# Altium footprint library 接口.PCBLIB: 266 footprints (part 12 of 17)
Each footprint in its own frame and in the unit in brackets; x right, y up, seen from the top. Pads: shape width x height; smd on the part's side, far side on the other; paste and mask are expansions set on the pad; w line width, h text height; cw(c..) or ccw(c..) is an arc to the next point about the centre after c.
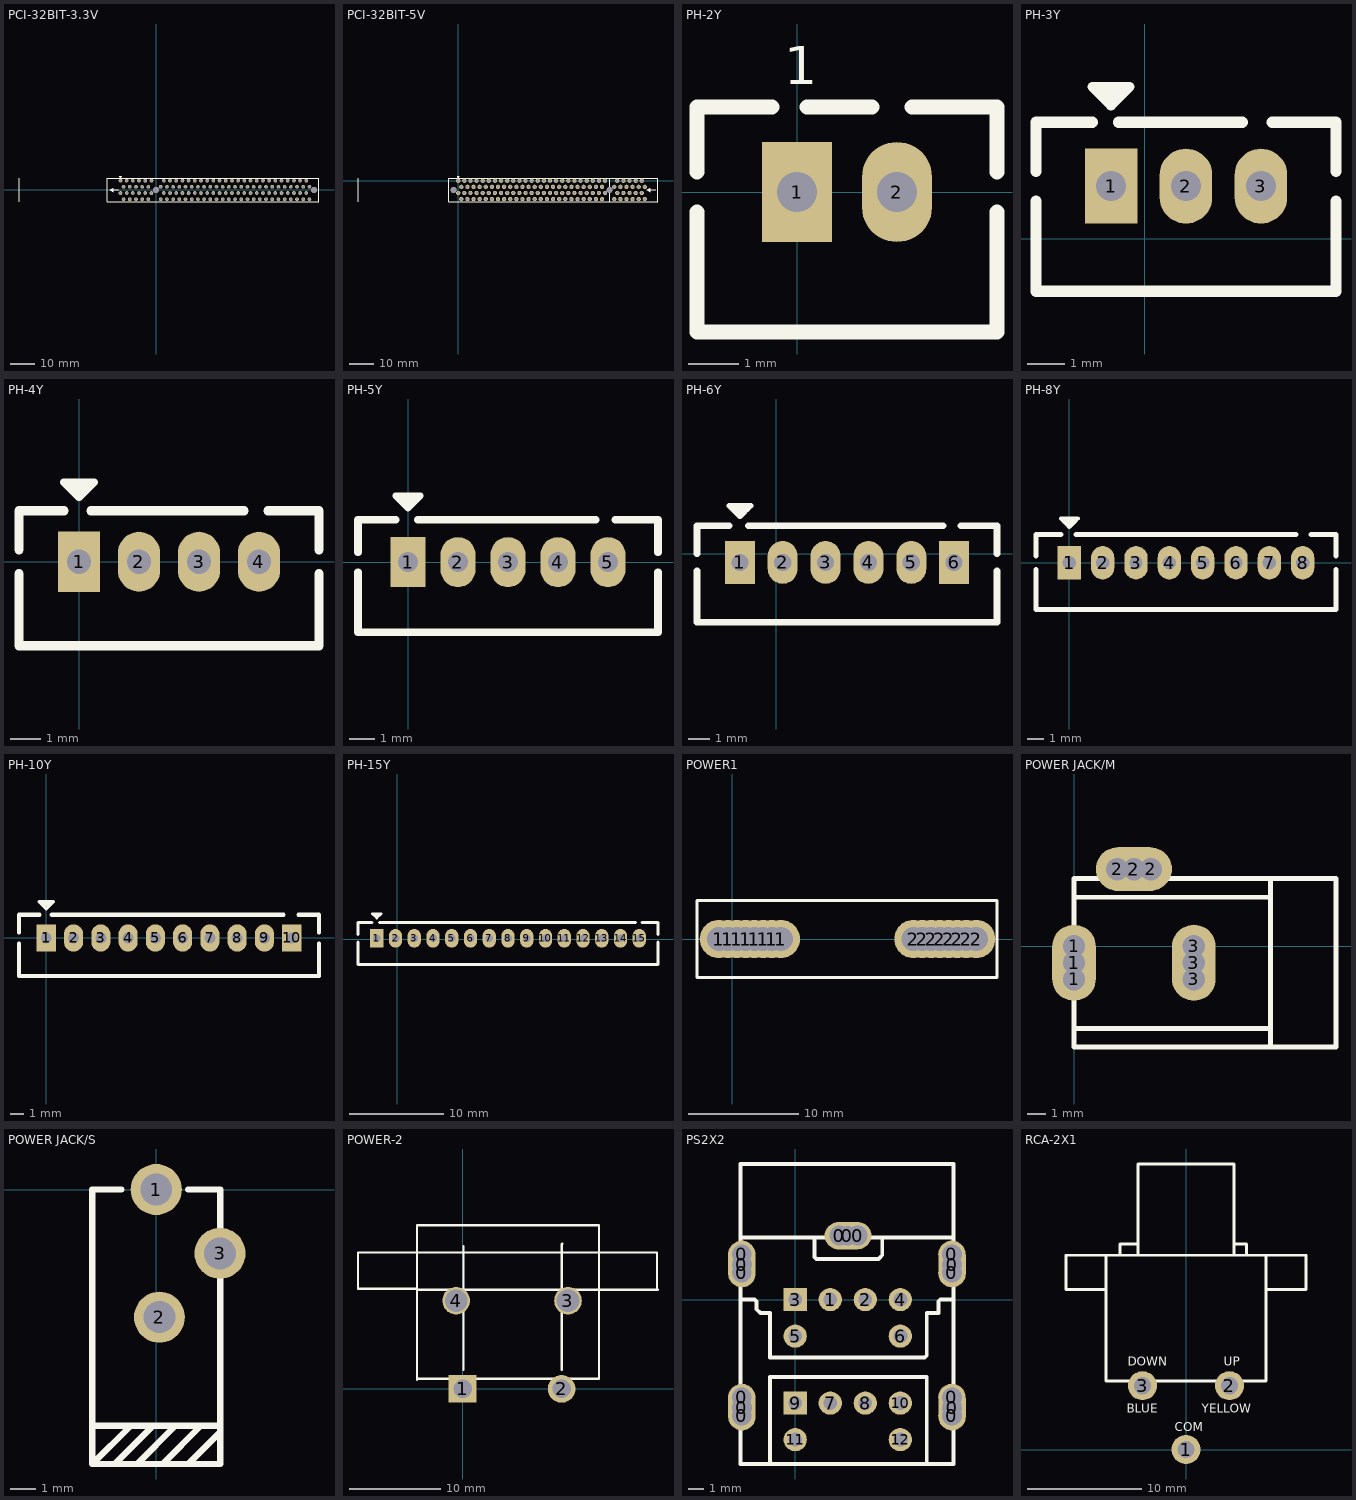
[diagram p11: the footprints below, top view; thin cyan lines are the x and y axes]

## PCI-32BIT-3.3V [mil]
pads (122):
  round 60 hole 40: A1(-575,150) A2(-525,50) A3(-475,150) A4(-425,50) A5(-375,150) A6(-325,50) A7(-275,150) A8(-225,50) A9(-175,150) A10(-125,50) A11(-75,150) A14(75,50) A15(125,150) A16(175,50) A17(225,150) A18(275,50) A19(325,150) A20(375,50) A21(425,150) A22(475,50) A23(525,150) A24(575,50) A25(625,150) A26(675,50) A27(725,150) A28(775,50) A29(825,150) A30(875,50) A31(925,150) A32(975,50) A33(1025,150) A34(1075,50) A35(1125,150) A36(1175,50) A37(1225,150) A38(1275,50) A39(1325,150) A40(1375,50) A41(1425,150) A42(1475,50) A43(1525,150) A44(1575,50) A45(1625,150) A46(1675,50) A47(1725,150) A48(1775,50) A49(1825,150) A50(1875,50) A51(1925,150) A52(1975,50) A53(2025,150) A54(2075,50) A55(2125,150) A56(2175,50) A57(2225,150) A58(2275,50) A59(2325,150) A60(2375,50) A61(2425,150) A62(2475,50) B1(-575,-50) B2(-525,-150) B3(-475,-50) B4(-425,-150) B5(-375,-50) B6(-325,-150) B7(-275,-50) B8(-225,-150) B9(-175,-50) B10(-125,-150) B11(-75,-50) B14(75,-150) B15(125,-50) B16(175,-150) B17(225,-50) B18(275,-150) B19(325,-50) B20(375,-150) B21(425,-50) B22(475,-150) B23(525,-50) B24(575,-150) B25(625,-50) B26(675,-150) B27(725,-50) B28(775,-150) B29(825,-50) B30(875,-150) B31(925,-50) B32(975,-150) B33(1025,-50) B34(1075,-150) B35(1125,-50) B36(1175,-150) B37(1225,-50) B38(1275,-150) B39(1325,-50) B40(1375,-150) B41(1425,-50) B42(1475,-150) B43(1525,-50) B44(1575,-150) B45(1625,-50) B46(1675,-150) B47(1725,-50) B48(1775,-150) B49(1825,-50) B50(1875,-150) B51(1925,-50) B52(1975,-150) B53(2025,-50) B54(2075,-150) B55(2125,-50) B56(2175,-150) B57(2225,-50) B58(2275,-150) B59(2325,-50) B60(2375,-150) B61(2425,-50) B62(2475,-150)
  round 96 hole 96: H1(0,0) H2(2550,0)
TopOverlay:
  lines w10: -2213,-190 -2213,190 ; -587.03,212.03 -562.97,212.03 -555.32,219.69 ; -555.32,219.69 -575,200 -594.68,219.69 -555.32,219.69 ; -790,-190 2630,-190 2630,190 -790,190 -790,-190
  lines w15: -710,-20 -710,20 ; -750,0 -695,30 -695,-30 -750,0
  lines w20: -740,0 -605,0

## PCI-32BIT-5V [mil]
pads (122):
  round 70 hole 40: A1(0,0) A2(50,-100) A3(100,0) A4(150,-100) A5(200,0) A6(250,-100) A7(300,0) A8(350,-100) A9(400,0) A10(450,-100) A11(500,0) A12(550,-100) A13(600,0) A14(650,-100) A15(700,0) A16(750,-100) A17(800,0) A18(850,-100) A19(900,0) A20(950,-100) A21(1000,0) A22(1050,-100) A23(1100,0) A24(1150,-100) A25(1200,0) A26(1250,-100) A27(1300,0) A28(1350,-100) A29(1400,0) A30(1450,-100) A31(1500,0) A32(1550,-100) A33(1600,0) A34(1650,-100) A35(1700,0) A36(1750,-100) A37(1800,0) A38(1850,-100) A39(1900,0) A40(1950,-100) A41(2000,0) A42(2050,-100) A43(2100,0) A44(2150,-100) A45(2200,0) A46(2250,-100) A47(2300,0) A48(2350,-100) A49(2400,0) A52(2550,-100) A53(2600,0) A54(2650,-100) A55(2700,0) A56(2750,-100) A57(2800,0) A58(2850,-100) A59(2900,0) A60(2950,-100) A61(3000,0) A62(3050,-100) B1(0,-200) B2(50,-300) B3(100,-200) B4(150,-300) B5(200,-200) B6(250,-300) B7(300,-200) B8(350,-300) B9(400,-200) B10(450,-300) B11(500,-200) B12(550,-300) B13(600,-200) B14(650,-300) B15(700,-200) B16(750,-300) B17(800,-200) B18(850,-300) B19(900,-200) B20(950,-300) B21(1000,-200) B22(1050,-300) B23(1100,-200) B24(1150,-300) B25(1200,-200) B26(1250,-300) B27(1300,-200) B28(1350,-300) B29(1400,-200) B30(1450,-300) B31(1500,-200) B32(1550,-300) B33(1600,-200) B34(1650,-300) B35(1700,-200) B36(1750,-300) B37(1800,-200) B38(1850,-300) B39(1900,-200) B40(1950,-300) B41(2000,-200) B42(2050,-300) B43(2100,-200) B44(2150,-300) B45(2200,-200) B46(2250,-300) B47(2300,-200) B48(2350,-300) B49(2400,-200) B52(2550,-300) B53(2600,-200) B54(2650,-300) B55(2700,-200) B56(2750,-300) B57(2800,-200) B58(2850,-300) B59(2900,-200) B60(2950,-300) B61(3000,-200) B62(3050,-300)
  round 96 hole 96: H1(-75,-150) H2(2475,-150)
TopOverlay:
  lines w7.87: 2475,-340 2475,40
  lines w10: -1638,-340 -1638,40 ; -12.04,62.03 12.03,62.03 19.68,69.69 ; 19.68,69.69 0,50 -19.68,69.69 19.68,69.69 ; -155,-340 -155,40 3265,40 3265,-340 -155,-340
  lines w15: 3125,-170 3125,-130 ; 3085,-150 3140,-120 3140,-180 3085,-150
  lines w20: 3095,-150 3230,-150

## PH-2Y [mm]
pads (2):
  rect 1.4x2 hole 0.8: 1(0,0)
  oval 1.4x2 hole 0.8: 2(2,0)
TopOverlay:
  lines w0.305: -2,-0.4 -2,-2.8 4,-2.8 4,-0.4 ; -2,0.4 -2,1.7 -0.5,1.7 ; 0.2,1.7 1.5,1.7 ; 2.3,1.7 4,1.7 4,0.4
  text "1" at -0.254,2.159 h0.76

## PH-3Y [mm]
pads (3):
  rect 1.4x2 hole 0.8: 1(-0.9,1.4)
  oval 1.4x2 hole 0.8: 2(1.1,1.4) 3(3.1,1.4)
TopOverlay:
  lines w0.254: -1.206,3.856 -0.594,3.856 -0.4,4.05 ; -0.4,4.05 -0.9,3.55 -1.4,4.05 -0.4,4.05
  lines w0.305: -2.9,1 -2.9,-1.4 5.1,-1.4 5.1,1 ; -2.9,1.8 -2.9,3.1 -1.4,3.1 ; -0.7,3.1 2.6,3.1 ; 3.4,3.1 5.1,3.1 5.1,1.8

## PH-4Y [mm]
pads (4):
  rect 1.4x2 hole 0.8: 1(0,0)
  oval 1.4x2 hole 0.8: 2(2,0) 3(4,0) 4(6,0)
TopOverlay:
  lines w0.254: -0.306,2.456 0.306,2.456 0.5,2.65 ; 0.5,2.65 0,2.15 -0.5,2.65 0.5,2.65
  lines w0.305: -2,-0.4 -2,-2.8 8,-2.8 8,-0.4 ; -2,0.4 -2,1.7 -0.5,1.7 ; 0.4,1.7 5.5,1.7 ; 6.3,1.7 8,1.7 8,0.4

## PH-5Y [mm]
pads (5):
  rect 1.4x2 hole 0.8: 1(0,0)
  oval 1.4x2 hole 0.8: 2(2,0) 3(4,0) 4(6,0) 5(8,0)
TopOverlay:
  lines w0.254: -0.306,2.456 0.306,2.456 0.5,2.65 ; 0.5,2.65 0,2.15 -0.5,2.65 0.5,2.65
  lines w0.305: -2,-0.4 -2,-2.8 10,-2.8 10,-0.4 ; -2,0.4 -2,1.7 -0.5,1.7 ; 0.4,1.7 7.5,1.7 ; 8.3,1.7 10,1.7 10,0.4

## PH-6Y [mm]
pads (6):
  rect 1.4x2 hole 0.8: 1(-1.7,-0.4) 6(8.3,-0.4)
  oval 1.4x2 hole 0.8: 2(0.3,-0.4) 3(2.3,-0.4) 4(4.3,-0.4) 5(6.3,-0.4)
TopOverlay:
  lines w0.254: -2.006,2.056 -1.394,2.056 -1.2,2.25 ; -1.2,2.25 -2.2,2.25 -1.7,1.75 -1.2,2.25
  lines w0.305: -3.7,-0.8 -3.7,-3.2 10.3,-3.2 10.3,-0.8 ; -3.7,0 -3.7,1.3 -2.2,1.3 ; -1.3,1.3 7.8,1.3 ; 8.6,1.3 10.3,1.3 10.3,0

## PH-8Y [mm]
pads (8):
  rect 1.4x2 hole 0.8: 1(0,0)
  oval 1.4x2 hole 0.8: 2(2,0) 3(4,0) 4(6,0) 5(8,0) 6(10,0) 7(12,0) 8(14,0)
TopOverlay:
  lines w0.254: -0.306,2.456 0.306,2.456 0.5,2.65 ; 0.5,2.65 -0.5,2.65 0,2.15 0.5,2.65
  lines w0.305: -2,-0.4 -2,-2.8 16,-2.8 16,-0.4 ; -2,0.4 -2,1.7 -0.5,1.7 ; 0.4,1.7 13.6,1.7 ; 14.5,1.7 16,1.7 16,0.4

## PH-10Y [mm]
pads (10):
  rect 1.4x2 hole 0.8: 1(0,0) 10(18,0)
  oval 1.4x2 hole 0.8: 2(2,0) 3(4,0) 4(6,0) 5(8,0) 6(10,0) 7(12,0) 8(14,0) 9(16,0)
TopOverlay:
  lines w0.254: -0.306,2.456 0.306,2.456 0.5,2.65 ; 0.5,2.65 -0.5,2.65 0,2.15 0.5,2.65
  lines w0.305: -2,-0.4 -2,-2.8 20,-2.8 20,-0.4 ; -2,0.4 -2,1.7 -0.5,1.7 ; 0.4,1.7 17.4,1.7 ; 18.5,1.7 20,1.7 20,0.4

## PH-15Y [mm]
pads (15):
  rect 1.4x2 hole 0.8: 1(-2.2,0.1)
  oval 1.4x2 hole 0.8: 2(-0.2,0.1) 3(1.8,0.1) 4(3.8,0.1) 5(5.8,0.1) 6(7.8,0.1) 7(9.8,0.1) 8(11.8,0.1) 9(13.8,0.1) 10(15.8,0.1) 11(17.8,0.1) 12(19.8,0.1) 13(21.8,0.1) 14(23.8,0.1) 15(25.8,0.1)
TopOverlay:
  lines w0.254: -2.506,2.556 -1.894,2.556 -1.7,2.75 ; -1.7,2.75 -2.7,2.75 -2.2,2.25 -1.7,2.75
  lines w0.305: -4.2,-0.3 -4.2,-2.7 17.8,-2.7 ; -4.2,0.5 -4.2,1.8 -2.7,1.8 ; -1.9,1.8 25.4,1.8 ; 13.8,-2.7 27.8,-2.7 27.8,-0.3 ; 26.1,1.8 27.8,1.8 27.8,0.5

## POWER1 [mm]
pads (16):
  round 3.5 hole 2.2: 1(-1.2,0) 1(-0.381,0) 1(0.419,0) 1(1.219,0) 1(2.019,0) 1(2.819,0) 1(3.619,0) 1(4.419,0) 2(16.5,0) 2(17.3,0) 2(18.1,0) 2(18.9,0) 2(19.7,0) 2(20.5,0) 2(21.3,0) 2(22.2,0)
TopOverlay:
  lines w0.254: -3.2,-3.5 -3.2,3.5 24.1,3.5 24.1,-3.5 -3.2,-3.5

## POWER JACK/M [mil]
pads (9):
  round 47 hole 47: 1(0,-70) 1(0,0) 2(91,162) 2(161,162) 3(252,-70) 3(252,0)
  oval 92x160 hole 47: 1(0,-35) 3(252,-35)
  oval 160x92 hole 47: 2(126,162)
TopOverlay:
  lines w10: 0,-173 413,-173 ; 0,103 413,103 ; 413,-212 413,142 ; 0,-212 551,-212 551,142 0,142 0,-212

## POWER JACK/S [mil]
pads (3):
  round 80 hole 50: 1(0,0) 2(5,-200) 3(100,-100)
TopOverlay:
  lines w10: -100,-370 100,-370 ; -65,-430 -5,-370 ; -55,0 -100,0 -100,-430 ; -40,-370 -100,-430 ; -30,-430 30,-370 ; 10,-430 70,-370 ; 50,-430 100,-380 ; 50,0 100,0 100,-430 -100,-430

## POWER-2 [mil]
pads (4):
  rect 120x120 hole 80: 1(0,0)
  round 120 hole 80: 2(429.13,0)
  round 120 hole 98.42: 3(456.69,381.89) 4(-27.56,381.89)
TopOverlay:
  lines w10: -196.85,590.55 842.52,590.55 842.52,433.07 846.46,429.13 -196.85,429.13 -200.79,433.07 -452.76,433.07 -452.76,590.55 -192.91,590.55 ; -23.62,39.37 -19.68,43.31 590.55,43.31 590.55,708.66 -196.85,708.66 -196.85,39.37 -192.91,43.31 0,43.31 ; 3.94,82.68 3.94,618.11 ; 429.13,82.68 429.13,625.98 433.07,629.92

## PS2X2 [mm]
pads (27):
  round 1.8 hole 1.3: 0(-3.509,1.771) 0(-3.509,2.971) 0(-3.509,-7.629) 0(-3.509,-6.429) 0(2.9,4.2) 0(4.1,4.2) 0(10.291,-7.629) 0(10.291,-6.429) 0(10.291,1.771) 0(10.291,2.971)
  oval 1.8x3 hole 1.3: 0(-3.5,2.3) 0(-3.5,-7.1) 0(10.3,-7.1) 0(10.3,2.3)
  oval 3x1.8 hole 1.3: 0(3.429,4.191)
  round 1.524 hole 0.914: 1(2.3,0) 2(4.6,0) 4(6.9,0) 5(0,-2.4) 6(6.9,-2.4) 7(2.3,-6.8) 8(4.6,-6.8) 10(6.9,-6.8) 11(0,-9.2) 12(6.9,-9.2)
  rect 1.524x1.524 hole 0.914: 3(0,0) 9(0,-6.8)
TopOverlay:
  lines w0.254: -3.556,4.064 1.905,4.064 ; -3.429,0 -2.667,0 -2.54,-0.127 -2.54,-0.635 -2.286,-0.889 -1.651,-0.889 -1.651,-3.81 8.255,-3.81 8.509,-3.81 8.636,-3.683 8.636,-0.889 9.398,-0.889 9.398,-0.127 9.525,0 10.287,0 ; -1.524,-10.795 -1.651,-10.668 -1.651,-5.08 8.636,-5.08 8.636,-10.795 ; 1.27,3.937 1.27,2.794 1.397,2.667 5.461,2.667 5.588,2.794 ; 4.953,4.064 10.414,4.064 ; 5.715,2.921 5.715,4.064 ; -3.6,-10.8 -3.6,8.9 10.4,8.9 10.4,-10.8 -3.6,-10.8

## RCA-2X1 [mil]
pads (3):
  round 100 hole 60: 1(0,0) 2(150,220) 3(-150,220)
TopOverlay:
  lines w10: -275.59,551.89 -413.39,551.89 -413.39,670 -275.59,670 ; -228.35,673.94 -228.35,709.37 -165.35,709.37 ; -165.35,670 -165.35,984.96 165.35,984.96 165.35,670 ; 165.35,709.37 208.91,709.37 208.91,673.94 ; 275.59,551.89 413.39,551.89 413.39,670 275.59,670 ; -275.59,670 -275.59,236.93 275.59,236.93 275.59,670 ; -275.59,670 275.59,670
  text "UP" at 129.92,288.11 h30
  text "DOWN" at -200.79,288.11 h30
  text "YELLOW" at 55.12,126.69 h30
  text "BLUE" at -204.72,126.69 h30
  text "COM" at -39.37,63.7 h30